# Altium footprint library Voltage Reference.PcbLib: 18 footprints (part 2 of 2)
Each footprint in its own frame and in the unit in brackets; x right, y up, seen from the top. Pads: shape width x height; smd on the part's side, far side on the other; paste and mask are expansions set on the pad; w line width, h text height; cw(c..) or ccw(c..) is an arc to the next point about the centre after c.
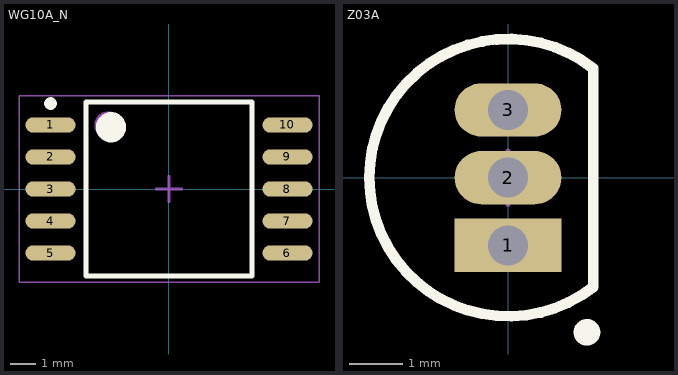
[diagram p1: the footprints below, top view; thin cyan lines are the x and y axes]

## WG10A_N [mm] "CERPACK, 10-Leads, Body 6.9x6.3mm, Pitch 1.27mm, IPC Medium Density"
height 2.25
pads (10):
  oval 2x0.6 smd: 1(-4.7,2.54) 2(-4.7,1.27) 3(-4.7,0) 4(-4.7,-1.27) 5(-4.7,-2.54) 6(4.7,-2.54) 7(4.7,-1.27) 8(4.7,0) 9(4.7,1.27) 10(4.7,2.54)
Top Overlay:
  circle w0.25: c-4.7,3.39 r0.125
  circle w0.6: c-2.3,2.45 r0.3
  lines w0.2: -3.3,-3.45 -3.3,3.45 3.3,3.45 3.3,-3.45 -3.3,-3.45
Mechanical 13:
  circle w0.1: c-2.415,2.53 r0.5
  lines w0.1: -3.315,-3.43 -3.315,3.43 3.315,3.43 3.315,-3.43 -3.315,-3.43
Mechanical 15:
  lines w0.05: -5.95,-3.7 -5.95,3.7 5.95,3.7 5.95,-3.7 -5.95,-3.7
  lines w0.1: -0.5,0 0.5,0 ; 0,-0.5 0,0.5
3D body: height 2.25, standoff 0.1, extent -3.315,-3.43 3.315,3.43

## Z03A [mm] "TO, Flat Index; 3 In-Line, Axial Leads; Body Dia. 5mm; Leads 0.55 x 0.50 mm (max)"
height 5.2
pads (3):
  rect 2x1 hole 0.75: 1(0,-1.27)
  oval 2x1 hole 0.75: 2(0,0) 3(0,1.27)
Top Overlay:
  circle w0.25: c1.48,-2.9 r0.125
  lines w0.2: 1.601,-2.049 cw(c0,0) 1.601,2.049 1.6,-2.049
Mechanical 13:
  lines w0.1: 1.601,-2.049 cw(c0,0) 1.601,2.049 1.6,-2.049
Mechanical 15:
  lines w0.1: -0.5,0 0.5,0 ; 0,-0.5 0,0.5
3D body: height 5.2, standoff 0, extent -2.599,-2.611 1.6,2.611